# Altium schematic symbol library Converter_DCDC.SchLib: 544 symbols (part 2 of 6)
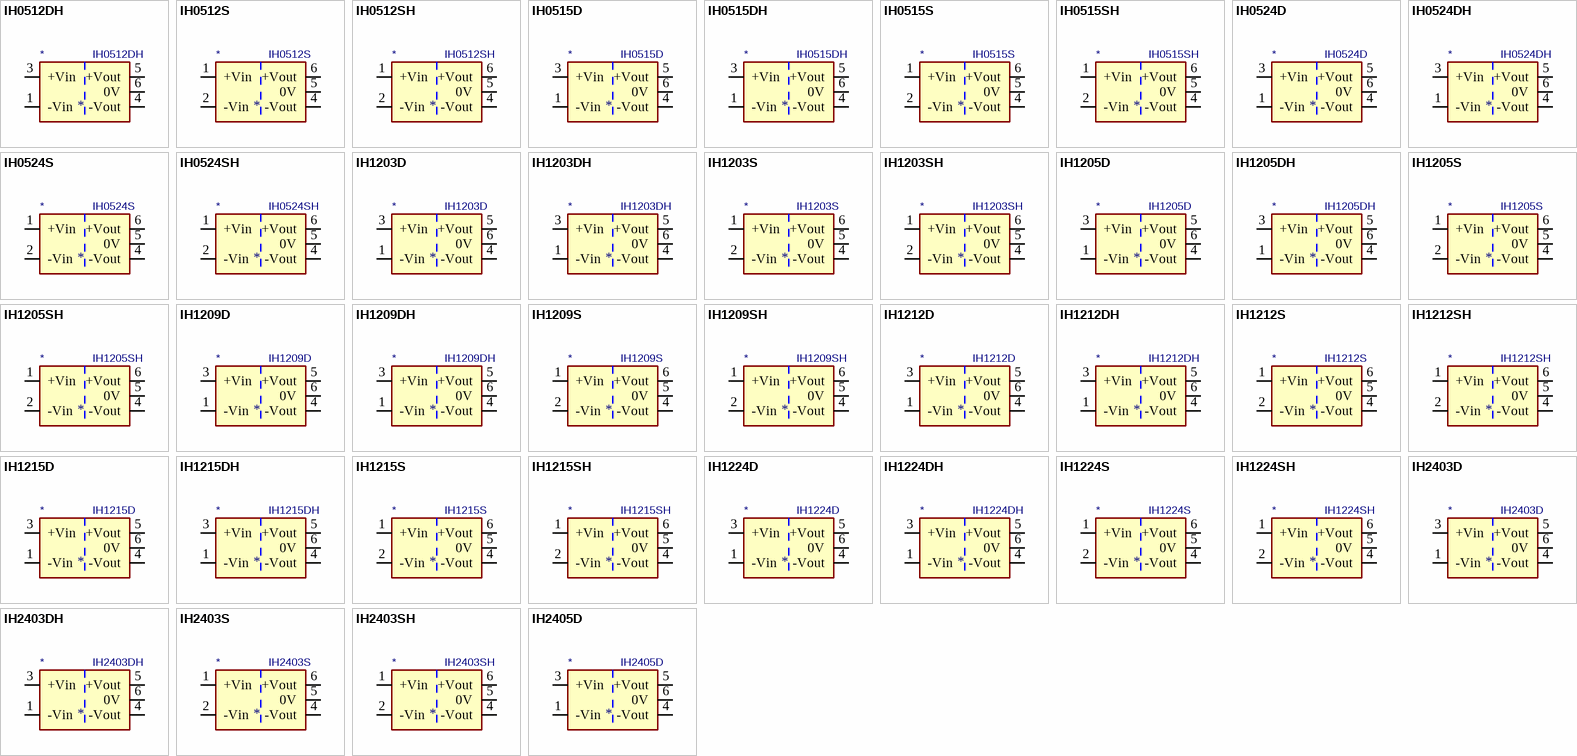
[diagram p14: symbols IH0512DH to IH2405D]

## IH1205DH
designator *  value IH1205DH
ki_keywords: XP_POWER DC/DC isolated Converter module; ki_description: XP Power 2W, 3000-6000 VDC Isolated DC/DC Converter Module, Dual Output Voltage ±5V, ±200mA, 12V Input Voltage, DIP; ki_fp_filters: *XP?POWER?IHxxxxDH*; Footprint: Converter_DCDC:Converter_DCDC_XP_POWER-IHxxxxDH_THT; Supplier: https://www.xppower.com/pdfs/SF_IH.pdf
footprint Converter_DCDC_XP_POWER-IHxxxxDH_THT
pins: 1 -Vin (power), 2 NC (in) hidden, 3 +Vin (power), 4 -Vout (power), 5 +Vout (power), 6 0V (power)

## IH1205S
designator *  value IH1205S
ki_keywords: XP_POWER DC/DC isolated Converter module; ki_description: XP Power 2W, 1000 VDC Isolated DC/DC Converter Module, Dual Output Voltage ±5V, ±200mA, 12V Input Voltage, SIP; ki_fp_filters: *XP?POWER?IHxxxxS*; Footprint: Converter_DCDC:Converter_DCDC_XP_POWER-IHxxxxS_THT; Supplier: https://www.xppower.com/pdfs/SF_IH.pdf
footprint Converter_DCDC_XP_POWER-IHxxxxS_THT
pins: 1 +Vin (power), 2 -Vin (power), 4 -Vout (power), 5 0V (power), 6 +Vout (power)

## IH1205SH
designator *  value IH1205SH
ki_keywords: XP_POWER DC/DC isolated Converter module; ki_description: XP Power 2W, 3000-6000 VDC Isolated DC/DC Converter Module, Dual Output Voltage ±5V, ±200mA, 12V Input Voltage, SIP; ki_fp_filters: *XP?POWER?IHxxxxSH*; Footprint: Converter_DCDC:Converter_DCDC_XP_POWER-IHxxxxSH_THT; Supplier: https://www.xppower.com/pdfs/SF_IH.pdf
footprint Converter_DCDC_XP_POWER-IHxxxxSH_THT
pins: 1 +Vin (power), 2 -Vin (power), 4 -Vout (power), 5 0V (power), 6 +Vout (power)

## IH1209D
designator *  value IH1209D
ki_keywords: XP_POWER DC/DC isolated Converter module; ki_description: XP Power 2W, 1000 VDC Isolated DC/DC Converter Module, Dual Output Voltage ±9V, ±111mA, 12V Input Voltage, DIP; ki_fp_filters: *XP?POWER?IHxxxxD*; Footprint: Converter_DCDC:Converter_DCDC_XP_POWER-IHxxxxD_THT; Supplier: https://www.xppower.com/pdfs/SF_IH.pdf
footprint Converter_DCDC_XP_POWER-IHxxxxD_THT
pins: 1 -Vin (power), 2 NC (in) hidden, 3 +Vin (power), 4 -Vout (power), 5 +Vout (power), 6 0V (power)

## IH1209DH
designator *  value IH1209DH
ki_keywords: XP_POWER DC/DC isolated Converter module; ki_description: XP Power 2W, 3000-6000 VDC Isolated DC/DC Converter Module, Dual Output Voltage ±9V, ±111mA, 12V Input Voltage, DIP; ki_fp_filters: *XP?POWER?IHxxxxDH*; Footprint: Converter_DCDC:Converter_DCDC_XP_POWER-IHxxxxDH_THT; Supplier: https://www.xppower.com/pdfs/SF_IH.pdf
footprint Converter_DCDC_XP_POWER-IHxxxxDH_THT
pins: 1 -Vin (power), 2 NC (in) hidden, 3 +Vin (power), 4 -Vout (power), 5 +Vout (power), 6 0V (power)

## IH1209S
designator *  value IH1209S
ki_keywords: XP_POWER DC/DC isolated Converter module; ki_description: XP Power 2W, 1000 VDC Isolated DC/DC Converter Module, Dual Output Voltage ±9V, ±111mA, 12V Input Voltage, SIP; ki_fp_filters: *XP?POWER?IHxxxxS*; Footprint: Converter_DCDC:Converter_DCDC_XP_POWER-IHxxxxS_THT; Supplier: https://www.xppower.com/pdfs/SF_IH.pdf
footprint Converter_DCDC_XP_POWER-IHxxxxS_THT
pins: 1 +Vin (power), 2 -Vin (power), 4 -Vout (power), 5 0V (power), 6 +Vout (power)

## IH1209SH
designator *  value IH1209SH
ki_keywords: XP_POWER DC/DC isolated Converter module; ki_description: XP Power 2W, 3000-6000 VDC Isolated DC/DC Converter Module, Dual Output Voltage ±9V, ±111mA, 12V Input Voltage, SIP; ki_fp_filters: *XP?POWER?IHxxxxSH*; Footprint: Converter_DCDC:Converter_DCDC_XP_POWER-IHxxxxSH_THT; Supplier: https://www.xppower.com/pdfs/SF_IH.pdf
footprint Converter_DCDC_XP_POWER-IHxxxxSH_THT
pins: 1 +Vin (power), 2 -Vin (power), 4 -Vout (power), 5 0V (power), 6 +Vout (power)

## IH1212D
designator *  value IH1212D
ki_keywords: XP_POWER DC/DC isolated Converter module; ki_description: XP Power 2W, 1000 VDC Isolated DC/DC Converter Module, Dual Output Voltage ±12V, ±84mA, 12V Input Voltage, DIP; ki_fp_filters: *XP?POWER?IHxxxxD*; Footprint: Converter_DCDC:Converter_DCDC_XP_POWER-IHxxxxD_THT; Supplier: https://www.xppower.com/pdfs/SF_IH.pdf
footprint Converter_DCDC_XP_POWER-IHxxxxD_THT
pins: 1 -Vin (power), 2 NC (in) hidden, 3 +Vin (power), 4 -Vout (power), 5 +Vout (power), 6 0V (power)

## IH1212DH
designator *  value IH1212DH
ki_keywords: XP_POWER DC/DC isolated Converter module; ki_description: XP Power 2W, 3000-6000 VDC Isolated DC/DC Converter Module, Dual Output Voltage ±12V, ±84mA, 12V Input Voltage, DIP; ki_fp_filters: *XP?POWER?IHxxxxDH*; Footprint: Converter_DCDC:Converter_DCDC_XP_POWER-IHxxxxDH_THT; Supplier: https://www.xppower.com/pdfs/SF_IH.pdf
footprint Converter_DCDC_XP_POWER-IHxxxxDH_THT
pins: 1 -Vin (power), 2 NC (in) hidden, 3 +Vin (power), 4 -Vout (power), 5 +Vout (power), 6 0V (power)

## IH1212S
designator *  value IH1212S
ki_keywords: XP_POWER DC/DC isolated Converter module; ki_description: XP Power 2W, 1000 VDC Isolated DC/DC Converter Module, Dual Output Voltage ±12V, ±84mA, 12V Input Voltage, SIP; ki_fp_filters: *XP?POWER?IHxxxxS*; Footprint: Converter_DCDC:Converter_DCDC_XP_POWER-IHxxxxS_THT; Supplier: https://www.xppower.com/pdfs/SF_IH.pdf
footprint Converter_DCDC_XP_POWER-IHxxxxS_THT
pins: 1 +Vin (power), 2 -Vin (power), 4 -Vout (power), 5 0V (power), 6 +Vout (power)

## IH1212SH
designator *  value IH1212SH
ki_keywords: XP_POWER DC/DC isolated Converter module; ki_description: XP Power 2W, 3000-6000 VDC Isolated DC/DC Converter Module, Dual Output Voltage ±12V, ±84mA, 12V Input Voltage, SIP; ki_fp_filters: *XP?POWER?IHxxxxSH*; Footprint: Converter_DCDC:Converter_DCDC_XP_POWER-IHxxxxSH_THT; Supplier: https://www.xppower.com/pdfs/SF_IH.pdf
footprint Converter_DCDC_XP_POWER-IHxxxxSH_THT
pins: 1 +Vin (power), 2 -Vin (power), 4 -Vout (power), 5 0V (power), 6 +Vout (power)

## IH1215D
designator *  value IH1215D
ki_keywords: XP_POWER DC/DC isolated Converter module; ki_description: XP Power 2W, 1000 VDC Isolated DC/DC Converter Module, Dual Output Voltage ±15V, ±66mA, 12V Input Voltage, DIP; ki_fp_filters: *XP?POWER?IHxxxxD*; Footprint: Converter_DCDC:Converter_DCDC_XP_POWER-IHxxxxD_THT; Supplier: https://www.xppower.com/pdfs/SF_IH.pdf
footprint Converter_DCDC_XP_POWER-IHxxxxD_THT
pins: 1 -Vin (power), 2 NC (in) hidden, 3 +Vin (power), 4 -Vout (power), 5 +Vout (power), 6 0V (power)

## IH1215DH
designator *  value IH1215DH
ki_keywords: XP_POWER DC/DC isolated Converter module; ki_description: XP Power 2W, 3000-6000 VDC Isolated DC/DC Converter Module, Dual Output Voltage ±15V, ±66mA, 12V Input Voltage, DIP; ki_fp_filters: *XP?POWER?IHxxxxDH*; Footprint: Converter_DCDC:Converter_DCDC_XP_POWER-IHxxxxDH_THT; Supplier: https://www.xppower.com/pdfs/SF_IH.pdf
footprint Converter_DCDC_XP_POWER-IHxxxxDH_THT
pins: 1 -Vin (power), 2 NC (in) hidden, 3 +Vin (power), 4 -Vout (power), 5 +Vout (power), 6 0V (power)

## IH1215S
designator *  value IH1215S
ki_keywords: XP_POWER DC/DC isolated Converter module; ki_description: XP Power 2W, 1000 VDC Isolated DC/DC Converter Module, Dual Output Voltage ±15V, ±66mA, 12V Input Voltage, SIP; ki_fp_filters: *XP?POWER?IHxxxxS*; Footprint: Converter_DCDC:Converter_DCDC_XP_POWER-IHxxxxS_THT; Supplier: https://www.xppower.com/pdfs/SF_IH.pdf
footprint Converter_DCDC_XP_POWER-IHxxxxS_THT
pins: 1 +Vin (power), 2 -Vin (power), 4 -Vout (power), 5 0V (power), 6 +Vout (power)

## IH1215SH
designator *  value IH1215SH
ki_keywords: XP_POWER DC/DC isolated Converter module; ki_description: XP Power 2W, 3000-6000 VDC Isolated DC/DC Converter Module, Dual Output Voltage ±15V, ±66mA, 12V Input Voltage, SIP; ki_fp_filters: *XP?POWER?IHxxxxSH*; Footprint: Converter_DCDC:Converter_DCDC_XP_POWER-IHxxxxSH_THT; Supplier: https://www.xppower.com/pdfs/SF_IH.pdf
footprint Converter_DCDC_XP_POWER-IHxxxxSH_THT
pins: 1 +Vin (power), 2 -Vin (power), 4 -Vout (power), 5 0V (power), 6 +Vout (power)

## IH1224D
designator *  value IH1224D
ki_keywords: XP_POWER DC/DC isolated Converter module; ki_description: XP Power 2W, 1000 VDC Isolated DC/DC Converter Module, Dual Output Voltage ±24V, ±42mA, 12V Input Voltage, DIP; ki_fp_filters: *XP?POWER?IHxxxxD*; Footprint: Converter_DCDC:Converter_DCDC_XP_POWER-IHxxxxD_THT; Supplier: https://www.xppower.com/pdfs/SF_IH.pdf
footprint Converter_DCDC_XP_POWER-IHxxxxD_THT
pins: 1 -Vin (power), 2 NC (in) hidden, 3 +Vin (power), 4 -Vout (power), 5 +Vout (power), 6 0V (power)

## IH1224DH
designator *  value IH1224DH
ki_keywords: XP_POWER DC/DC isolated Converter module; ki_description: XP Power 2W, 3000-6000 VDC Isolated DC/DC Converter Module, Dual Output Voltage ±24V, ±42mA, 12V Input Voltage, DIP; ki_fp_filters: *XP?POWER?IHxxxxDH*; Footprint: Converter_DCDC:Converter_DCDC_XP_POWER-IHxxxxDH_THT; Supplier: https://www.xppower.com/pdfs/SF_IH.pdf
footprint Converter_DCDC_XP_POWER-IHxxxxDH_THT
pins: 1 -Vin (power), 2 NC (in) hidden, 3 +Vin (power), 4 -Vout (power), 5 +Vout (power), 6 0V (power)

## IH1224S
designator *  value IH1224S
ki_keywords: XP_POWER DC/DC isolated Converter module; ki_description: XP Power 2W, 1000 VDC Isolated DC/DC Converter Module, Dual Output Voltage ±24V, ±42mA, 12V Input Voltage, SIP; ki_fp_filters: *XP?POWER?IHxxxxS*; Footprint: Converter_DCDC:Converter_DCDC_XP_POWER-IHxxxxS_THT; Supplier: https://www.xppower.com/pdfs/SF_IH.pdf
footprint Converter_DCDC_XP_POWER-IHxxxxS_THT
pins: 1 +Vin (power), 2 -Vin (power), 4 -Vout (power), 5 0V (power), 6 +Vout (power)

## IH1224SH
designator *  value IH1224SH
ki_keywords: XP_POWER DC/DC isolated Converter module; ki_description: XP Power 2W, 3000-6000 VDC Isolated DC/DC Converter Module, Dual Output Voltage ±24V, ±42mA, 12V Input Voltage, SIP; ki_fp_filters: *XP?POWER?IHxxxxSH*; Footprint: Converter_DCDC:Converter_DCDC_XP_POWER-IHxxxxSH_THT; Supplier: https://www.xppower.com/pdfs/SF_IH.pdf
footprint Converter_DCDC_XP_POWER-IHxxxxSH_THT
pins: 1 +Vin (power), 2 -Vin (power), 4 -Vout (power), 5 0V (power), 6 +Vout (power)

## IH2403D
designator *  value IH2403D
ki_keywords: XP_POWER DC/DC isolated Converter module; ki_description: XP Power 2W, 1000 VDC Isolated DC/DC Converter Module, Dual Output Voltage ±3.3V, ±200mA, 24V Input Voltage, DIP; ki_fp_filters: *XP?POWER?IHxxxxD*; Footprint: Converter_DCDC:Converter_DCDC_XP_POWER-IHxxxxD_THT; Supplier: https://www.xppower.com/pdfs/SF_IH.pdf
footprint Converter_DCDC_XP_POWER-IHxxxxD_THT
pins: 1 -Vin (power), 2 NC (in) hidden, 3 +Vin (power), 4 -Vout (power), 5 +Vout (power), 6 0V (power)

## IH2403DH
designator *  value IH2403DH
ki_keywords: XP_POWER DC/DC isolated Converter module; ki_description: XP Power 2W, 3000-6000 VDC Isolated DC/DC Converter Module, Dual Output Voltage ±3.3V, ±200mA, 24V Input Voltage, DIP; ki_fp_filters: *XP?POWER?IHxxxxDH*; Footprint: Converter_DCDC:Converter_DCDC_XP_POWER-IHxxxxDH_THT; Supplier: https://www.xppower.com/pdfs/SF_IH.pdf
footprint Converter_DCDC_XP_POWER-IHxxxxDH_THT
pins: 1 -Vin (power), 2 NC (in) hidden, 3 +Vin (power), 4 -Vout (power), 5 +Vout (power), 6 0V (power)

## IH2403S
designator *  value IH2403S
ki_keywords: XP_POWER DC/DC isolated Converter module; ki_description: XP Power 2W, 1000 VDC Isolated DC/DC Converter Module, Dual Output Voltage ±3.3V, ±200mA, 24V Input Voltage, SIP; ki_fp_filters: *XP?POWER?IHxxxxS*; Footprint: Converter_DCDC:Converter_DCDC_XP_POWER-IHxxxxS_THT; Supplier: https://www.xppower.com/pdfs/SF_IH.pdf
footprint Converter_DCDC_XP_POWER-IHxxxxS_THT
pins: 1 +Vin (power), 2 -Vin (power), 4 -Vout (power), 5 0V (power), 6 +Vout (power)

## IH2403SH
designator *  value IH2403SH
ki_keywords: XP_POWER DC/DC isolated Converter module; ki_description: XP Power 2W, 3000-6000 VDC Isolated DC/DC Converter Module, Dual Output Voltage ±3.3V, ±200mA, 24V Input Voltage, SIP; ki_fp_filters: *XP?POWER?IHxxxxSH*; Footprint: Converter_DCDC:Converter_DCDC_XP_POWER-IHxxxxSH_THT; Supplier: https://www.xppower.com/pdfs/SF_IH.pdf
footprint Converter_DCDC_XP_POWER-IHxxxxSH_THT
pins: 1 +Vin (power), 2 -Vin (power), 4 -Vout (power), 5 0V (power), 6 +Vout (power)

## IH2405D
designator *  value IH2405D
ki_keywords: XP_POWER DC/DC isolated Converter module; ki_description: XP Power 2W, 1000 VDC Isolated DC/DC Converter Module, Dual Output Voltage ±5V, ±200mA, 24V Input Voltage, DIP; ki_fp_filters: *XP?POWER?IHxxxxD*; Footprint: Converter_DCDC:Converter_DCDC_XP_POWER-IHxxxxD_THT; Supplier: https://www.xppower.com/pdfs/SF_IH.pdf
footprint Converter_DCDC_XP_POWER-IHxxxxD_THT
pins: 1 -Vin (power), 2 NC (in) hidden, 3 +Vin (power), 4 -Vout (power), 5 +Vout (power), 6 0V (power)

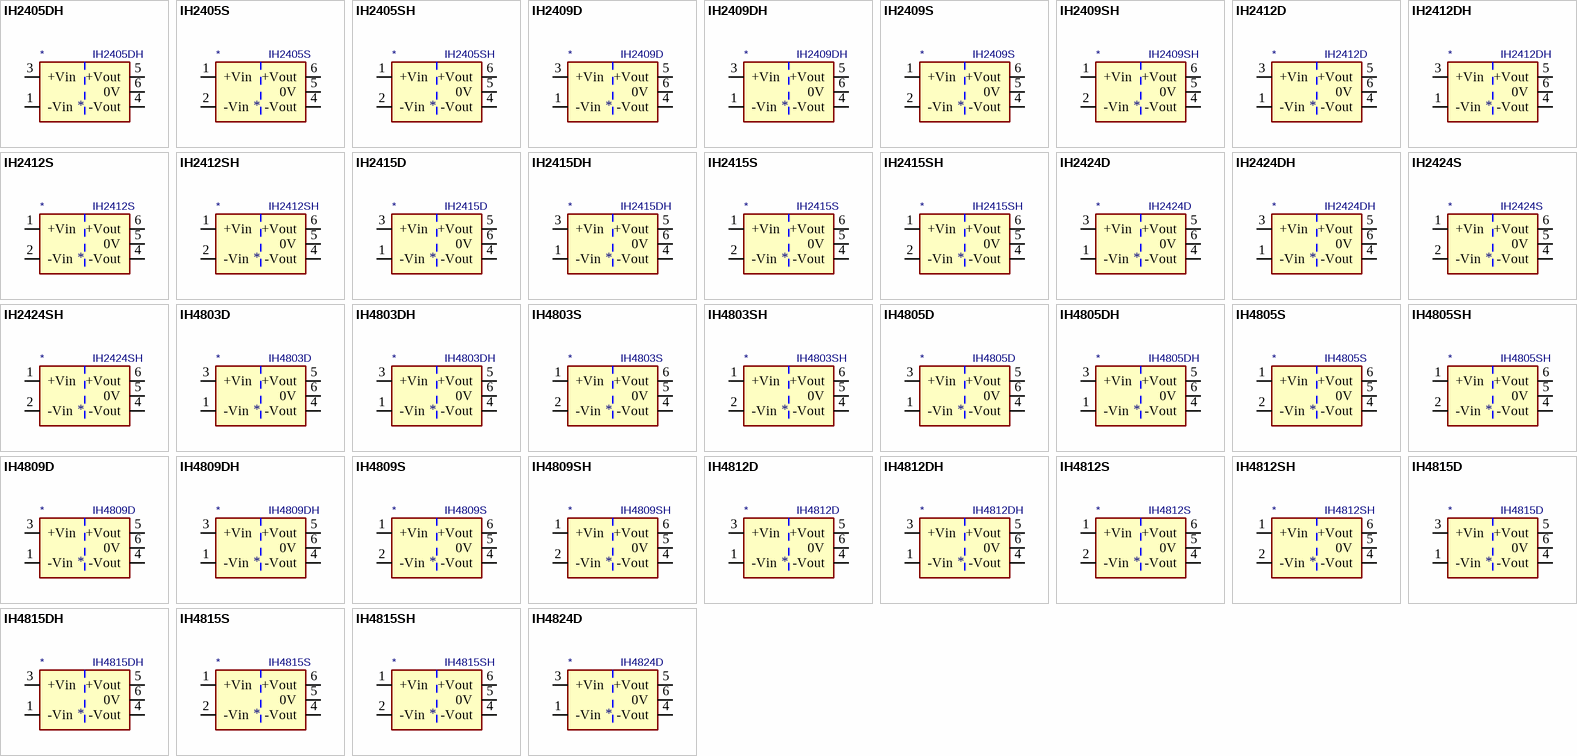
[diagram p3: symbols IH2405DH to IH4824D]

## IH2405DH
designator *  value IH2405DH
ki_keywords: XP_POWER DC/DC isolated Converter module; ki_description: XP Power 2W, 3000-6000 VDC Isolated DC/DC Converter Module, Dual Output Voltage ±5V, ±200mA, 24V Input Voltage, DIP; ki_fp_filters: *XP?POWER?IHxxxxDH*; Footprint: Converter_DCDC:Converter_DCDC_XP_POWER-IHxxxxDH_THT; Supplier: https://www.xppower.com/pdfs/SF_IH.pdf
footprint Converter_DCDC_XP_POWER-IHxxxxDH_THT
pins: 1 -Vin (power), 2 NC (in) hidden, 3 +Vin (power), 4 -Vout (power), 5 +Vout (power), 6 0V (power)

## IH2405S
designator *  value IH2405S
ki_keywords: XP_POWER DC/DC isolated Converter module; ki_description: XP Power 2W, 1000 VDC Isolated DC/DC Converter Module, Dual Output Voltage ±5V, ±200mA, 24V Input Voltage, SIP; ki_fp_filters: *XP?POWER?IHxxxxS*; Footprint: Converter_DCDC:Converter_DCDC_XP_POWER-IHxxxxS_THT; Supplier: https://www.xppower.com/pdfs/SF_IH.pdf
footprint Converter_DCDC_XP_POWER-IHxxxxS_THT
pins: 1 +Vin (power), 2 -Vin (power), 4 -Vout (power), 5 0V (power), 6 +Vout (power)

## IH2405SH
designator *  value IH2405SH
ki_keywords: XP_POWER DC/DC isolated Converter module; ki_description: XP Power 2W, 3000-6000 VDC Isolated DC/DC Converter Module, Dual Output Voltage ±5V, ±200mA, 24V Input Voltage, SIP; ki_fp_filters: *XP?POWER?IHxxxxSH*; Footprint: Converter_DCDC:Converter_DCDC_XP_POWER-IHxxxxSH_THT; Supplier: https://www.xppower.com/pdfs/SF_IH.pdf
footprint Converter_DCDC_XP_POWER-IHxxxxSH_THT
pins: 1 +Vin (power), 2 -Vin (power), 4 -Vout (power), 5 0V (power), 6 +Vout (power)

## IH2409D
designator *  value IH2409D
ki_keywords: XP_POWER DC/DC isolated Converter module; ki_description: XP Power 2W, 1000 VDC Isolated DC/DC Converter Module, Dual Output Voltage ±9V, ±111mA, 24V Input Voltage, DIP; ki_fp_filters: *XP?POWER?IHxxxxD*; Footprint: Converter_DCDC:Converter_DCDC_XP_POWER-IHxxxxD_THT; Supplier: https://www.xppower.com/pdfs/SF_IH.pdf
footprint Converter_DCDC_XP_POWER-IHxxxxD_THT
pins: 1 -Vin (power), 2 NC (in) hidden, 3 +Vin (power), 4 -Vout (power), 5 +Vout (power), 6 0V (power)

## IH2409DH
designator *  value IH2409DH
ki_keywords: XP_POWER DC/DC isolated Converter module; ki_description: XP Power 2W, 3000-6000 VDC Isolated DC/DC Converter Module, Dual Output Voltage ±9V, ±111mA, 24V Input Voltage, DIP; ki_fp_filters: *XP?POWER?IHxxxxDH*; Footprint: Converter_DCDC:Converter_DCDC_XP_POWER-IHxxxxDH_THT; Supplier: https://www.xppower.com/pdfs/SF_IH.pdf
footprint Converter_DCDC_XP_POWER-IHxxxxDH_THT
pins: 1 -Vin (power), 2 NC (in) hidden, 3 +Vin (power), 4 -Vout (power), 5 +Vout (power), 6 0V (power)

## IH2409S
designator *  value IH2409S
ki_keywords: XP_POWER DC/DC isolated Converter module; ki_description: XP Power 2W, 1000 VDC Isolated DC/DC Converter Module, Dual Output Voltage ±9V, ±111mA, 24V Input Voltage, SIP; ki_fp_filters: *XP?POWER?IHxxxxS*; Footprint: Converter_DCDC:Converter_DCDC_XP_POWER-IHxxxxS_THT; Supplier: https://www.xppower.com/pdfs/SF_IH.pdf
footprint Converter_DCDC_XP_POWER-IHxxxxS_THT
pins: 1 +Vin (power), 2 -Vin (power), 4 -Vout (power), 5 0V (power), 6 +Vout (power)

## IH2409SH
designator *  value IH2409SH
ki_keywords: XP_POWER DC/DC isolated Converter module; ki_description: XP Power 2W, 3000-6000 VDC Isolated DC/DC Converter Module, Dual Output Voltage ±9V, ±111mA, 24V Input Voltage, SIP; ki_fp_filters: *XP?POWER?IHxxxxSH*; Footprint: Converter_DCDC:Converter_DCDC_XP_POWER-IHxxxxSH_THT; Supplier: https://www.xppower.com/pdfs/SF_IH.pdf
footprint Converter_DCDC_XP_POWER-IHxxxxSH_THT
pins: 1 +Vin (power), 2 -Vin (power), 4 -Vout (power), 5 0V (power), 6 +Vout (power)

## IH2412D
designator *  value IH2412D
ki_keywords: XP_POWER DC/DC isolated Converter module; ki_description: XP Power 2W, 1000 VDC Isolated DC/DC Converter Module, Dual Output Voltage ±12V, ±84mA, 24V Input Voltage, DIP; ki_fp_filters: *XP?POWER?IHxxxxD*; Footprint: Converter_DCDC:Converter_DCDC_XP_POWER-IHxxxxD_THT; Supplier: https://www.xppower.com/pdfs/SF_IH.pdf
footprint Converter_DCDC_XP_POWER-IHxxxxD_THT
pins: 1 -Vin (power), 2 NC (in) hidden, 3 +Vin (power), 4 -Vout (power), 5 +Vout (power), 6 0V (power)

## IH2412DH
designator *  value IH2412DH
ki_keywords: XP_POWER DC/DC isolated Converter module; ki_description: XP Power 2W, 3000-6000 VDC Isolated DC/DC Converter Module, Dual Output Voltage ±12V, ±84mA, 24V Input Voltage, DIP; ki_fp_filters: *XP?POWER?IHxxxxDH*; Footprint: Converter_DCDC:Converter_DCDC_XP_POWER-IHxxxxDH_THT; Supplier: https://www.xppower.com/pdfs/SF_IH.pdf
footprint Converter_DCDC_XP_POWER-IHxxxxDH_THT
pins: 1 -Vin (power), 2 NC (in) hidden, 3 +Vin (power), 4 -Vout (power), 5 +Vout (power), 6 0V (power)

## IH2412S
designator *  value IH2412S
ki_keywords: XP_POWER DC/DC isolated Converter module; ki_description: XP Power 2W, 1000 VDC Isolated DC/DC Converter Module, Dual Output Voltage ±12V, ±84mA, 24V Input Voltage, SIP; ki_fp_filters: *XP?POWER?IHxxxxS*; Footprint: Converter_DCDC:Converter_DCDC_XP_POWER-IHxxxxS_THT; Supplier: https://www.xppower.com/pdfs/SF_IH.pdf
footprint Converter_DCDC_XP_POWER-IHxxxxS_THT
pins: 1 +Vin (power), 2 -Vin (power), 4 -Vout (power), 5 0V (power), 6 +Vout (power)

## IH2412SH
designator *  value IH2412SH
ki_keywords: XP_POWER DC/DC isolated Converter module; ki_description: XP Power 2W, 3000-6000 VDC Isolated DC/DC Converter Module, Dual Output Voltage ±12V, ±84mA, 24V Input Voltage, SIP; ki_fp_filters: *XP?POWER?IHxxxxSH*; Footprint: Converter_DCDC:Converter_DCDC_XP_POWER-IHxxxxSH_THT; Supplier: https://www.xppower.com/pdfs/SF_IH.pdf
footprint Converter_DCDC_XP_POWER-IHxxxxSH_THT
pins: 1 +Vin (power), 2 -Vin (power), 4 -Vout (power), 5 0V (power), 6 +Vout (power)

## IH2415D
designator *  value IH2415D
ki_keywords: XP_POWER DC/DC isolated Converter module; ki_description: XP Power 2W, 1000 VDC Isolated DC/DC Converter Module, Dual Output Voltage ±15V, ±66mA, 24V Input Voltage, DIP; ki_fp_filters: *XP?POWER?IHxxxxD*; Footprint: Converter_DCDC:Converter_DCDC_XP_POWER-IHxxxxD_THT; Supplier: https://www.xppower.com/pdfs/SF_IH.pdf
footprint Converter_DCDC_XP_POWER-IHxxxxD_THT
pins: 1 -Vin (power), 2 NC (in) hidden, 3 +Vin (power), 4 -Vout (power), 5 +Vout (power), 6 0V (power)

## IH2415DH
designator *  value IH2415DH
ki_keywords: XP_POWER DC/DC isolated Converter module; ki_description: XP Power 2W, 3000-6000 VDC Isolated DC/DC Converter Module, Dual Output Voltage ±15V, ±66mA, 24V Input Voltage, DIP; ki_fp_filters: *XP?POWER?IHxxxxDH*; Footprint: Converter_DCDC:Converter_DCDC_XP_POWER-IHxxxxDH_THT; Supplier: https://www.xppower.com/pdfs/SF_IH.pdf
footprint Converter_DCDC_XP_POWER-IHxxxxDH_THT
pins: 1 -Vin (power), 2 NC (in) hidden, 3 +Vin (power), 4 -Vout (power), 5 +Vout (power), 6 0V (power)

## IH2415S
designator *  value IH2415S
ki_keywords: XP_POWER DC/DC isolated Converter module; ki_description: XP Power 2W, 1000 VDC Isolated DC/DC Converter Module, Dual Output Voltage ±15V, ±66mA, 24V Input Voltage, SIP; ki_fp_filters: *XP?POWER?IHxxxxS*; Footprint: Converter_DCDC:Converter_DCDC_XP_POWER-IHxxxxS_THT; Supplier: https://www.xppower.com/pdfs/SF_IH.pdf
footprint Converter_DCDC_XP_POWER-IHxxxxS_THT
pins: 1 +Vin (power), 2 -Vin (power), 4 -Vout (power), 5 0V (power), 6 +Vout (power)

## IH2415SH
designator *  value IH2415SH
ki_keywords: XP_POWER DC/DC isolated Converter module; ki_description: XP Power 2W, 3000-6000 VDC Isolated DC/DC Converter Module, Dual Output Voltage ±15V, ±66mA, 24V Input Voltage, SIP; ki_fp_filters: *XP?POWER?IHxxxxSH*; Footprint: Converter_DCDC:Converter_DCDC_XP_POWER-IHxxxxSH_THT; Supplier: https://www.xppower.com/pdfs/SF_IH.pdf
footprint Converter_DCDC_XP_POWER-IHxxxxSH_THT
pins: 1 +Vin (power), 2 -Vin (power), 4 -Vout (power), 5 0V (power), 6 +Vout (power)

## IH2424D
designator *  value IH2424D
ki_keywords: XP_POWER DC/DC isolated Converter module; ki_description: XP Power 2W, 1000 VDC Isolated DC/DC Converter Module, Dual Output Voltage ±24V, ±42mA, 24V Input Voltage, DIP; ki_fp_filters: *XP?POWER?IHxxxxD*; Footprint: Converter_DCDC:Converter_DCDC_XP_POWER-IHxxxxD_THT; Supplier: https://www.xppower.com/pdfs/SF_IH.pdf
footprint Converter_DCDC_XP_POWER-IHxxxxD_THT
pins: 1 -Vin (power), 2 NC (in) hidden, 3 +Vin (power), 4 -Vout (power), 5 +Vout (power), 6 0V (power)

## IH2424DH
designator *  value IH2424DH
ki_keywords: XP_POWER DC/DC isolated Converter module; ki_description: XP Power 2W, 3000-6000 VDC Isolated DC/DC Converter Module, Dual Output Voltage ±24V, ±42mA, 24V Input Voltage, DIP; ki_fp_filters: *XP?POWER?IHxxxxDH*; Footprint: Converter_DCDC:Converter_DCDC_XP_POWER-IHxxxxDH_THT; Supplier: https://www.xppower.com/pdfs/SF_IH.pdf
footprint Converter_DCDC_XP_POWER-IHxxxxDH_THT
pins: 1 -Vin (power), 2 NC (in) hidden, 3 +Vin (power), 4 -Vout (power), 5 +Vout (power), 6 0V (power)

## IH2424S
designator *  value IH2424S
ki_keywords: XP_POWER DC/DC isolated Converter module; ki_description: XP Power 2W, 1000 VDC Isolated DC/DC Converter Module, Dual Output Voltage ±24V, ±42mA, 24V Input Voltage, SIP; ki_fp_filters: *XP?POWER?IHxxxxS*; Footprint: Converter_DCDC:Converter_DCDC_XP_POWER-IHxxxxS_THT; Supplier: https://www.xppower.com/pdfs/SF_IH.pdf
footprint Converter_DCDC_XP_POWER-IHxxxxS_THT
pins: 1 +Vin (power), 2 -Vin (power), 4 -Vout (power), 5 0V (power), 6 +Vout (power)

## IH2424SH
designator *  value IH2424SH
ki_keywords: XP_POWER DC/DC isolated Converter module; ki_description: XP Power 2W, 3000-6000 VDC Isolated DC/DC Converter Module, Dual Output Voltage ±24V, ±42mA, 24V Input Voltage, SIP; ki_fp_filters: *XP?POWER?IHxxxxSH*; Footprint: Converter_DCDC:Converter_DCDC_XP_POWER-IHxxxxSH_THT; Supplier: https://www.xppower.com/pdfs/SF_IH.pdf
footprint Converter_DCDC_XP_POWER-IHxxxxSH_THT
pins: 1 +Vin (power), 2 -Vin (power), 4 -Vout (power), 5 0V (power), 6 +Vout (power)

## IH4803D
designator *  value IH4803D
ki_keywords: XP_POWER DC/DC isolated Converter module; ki_description: XP Power 2W, 1000 VDC Isolated DC/DC Converter Module, Dual Output Voltage ±3.3V, ±200mA, 48V Input Voltage, DIP; ki_fp_filters: *XP?POWER?IHxxxxD*; Footprint: Converter_DCDC:Converter_DCDC_XP_POWER-IHxxxxD_THT; Supplier: https://www.xppower.com/pdfs/SF_IH.pdf
footprint Converter_DCDC_XP_POWER-IHxxxxD_THT
pins: 1 -Vin (power), 2 NC (in) hidden, 3 +Vin (power), 4 -Vout (power), 5 +Vout (power), 6 0V (power)

## IH4803DH
designator *  value IH4803DH
ki_keywords: XP_POWER DC/DC isolated Converter module; ki_description: XP Power 2W, 3000-6000 VDC Isolated DC/DC Converter Module, Dual Output Voltage ±3.3V, ±200mA, 48V Input Voltage, DIP; ki_fp_filters: *XP?POWER?IHxxxxDH*; Footprint: Converter_DCDC:Converter_DCDC_XP_POWER-IHxxxxDH_THT; Supplier: https://www.xppower.com/pdfs/SF_IH.pdf
footprint Converter_DCDC_XP_POWER-IHxxxxDH_THT
pins: 1 -Vin (power), 2 NC (in) hidden, 3 +Vin (power), 4 -Vout (power), 5 +Vout (power), 6 0V (power)

## IH4803S
designator *  value IH4803S
ki_keywords: XP_POWER DC/DC isolated Converter module; ki_description: XP Power 2W, 1000 VDC Isolated DC/DC Converter Module, Dual Output Voltage ±3.3V, ±200mA, 48V Input Voltage, SIP; ki_fp_filters: *XP?POWER?IHxxxxS*; Footprint: Converter_DCDC:Converter_DCDC_XP_POWER-IHxxxxS_THT; Supplier: https://www.xppower.com/pdfs/SF_IH.pdf
footprint Converter_DCDC_XP_POWER-IHxxxxS_THT
pins: 1 +Vin (power), 2 -Vin (power), 4 -Vout (power), 5 0V (power), 6 +Vout (power)

## IH4803SH
designator *  value IH4803SH
ki_keywords: XP_POWER DC/DC isolated Converter module; ki_description: XP Power 2W, 3000-6000 VDC Isolated DC/DC Converter Module, Dual Output Voltage ±3.3V, ±200mA, 48V Input Voltage, SIP; ki_fp_filters: *XP?POWER?IHxxxxSH*; Footprint: Converter_DCDC:Converter_DCDC_XP_POWER-IHxxxxSH_THT; Supplier: https://www.xppower.com/pdfs/SF_IH.pdf
footprint Converter_DCDC_XP_POWER-IHxxxxSH_THT
pins: 1 +Vin (power), 2 -Vin (power), 4 -Vout (power), 5 0V (power), 6 +Vout (power)

## IH4805D
designator *  value IH4805D
ki_keywords: XP_POWER DC/DC isolated Converter module; ki_description: XP Power 2W, 1000 VDC Isolated DC/DC Converter Module, Dual Output Voltage ±5V, ±200mA, 48V Input Voltage, DIP; ki_fp_filters: *XP?POWER?IHxxxxD*; Footprint: Converter_DCDC:Converter_DCDC_XP_POWER-IHxxxxD_THT; Supplier: https://www.xppower.com/pdfs/SF_IH.pdf
footprint Converter_DCDC_XP_POWER-IHxxxxD_THT
pins: 1 -Vin (power), 2 NC (in) hidden, 3 +Vin (power), 4 -Vout (power), 5 +Vout (power), 6 0V (power)

## IH4805DH
designator *  value IH4805DH
ki_keywords: XP_POWER DC/DC isolated Converter module; ki_description: XP Power 2W, 3000-6000 VDC Isolated DC/DC Converter Module, Dual Output Voltage ±5V, ±200mA, 48V Input Voltage, DIP; ki_fp_filters: *XP?POWER?IHxxxxDH*; Footprint: Converter_DCDC:Converter_DCDC_XP_POWER-IHxxxxDH_THT; Supplier: https://www.xppower.com/pdfs/SF_IH.pdf
footprint Converter_DCDC_XP_POWER-IHxxxxDH_THT
pins: 1 -Vin (power), 2 NC (in) hidden, 3 +Vin (power), 4 -Vout (power), 5 +Vout (power), 6 0V (power)

## IH4805S
designator *  value IH4805S
ki_keywords: XP_POWER DC/DC isolated Converter module; ki_description: XP Power 2W, 1000 VDC Isolated DC/DC Converter Module, Dual Output Voltage ±5V, ±200mA, 48V Input Voltage, SIP; ki_fp_filters: *XP?POWER?IHxxxxS*; Footprint: Converter_DCDC:Converter_DCDC_XP_POWER-IHxxxxS_THT; Supplier: https://www.xppower.com/pdfs/SF_IH.pdf
footprint Converter_DCDC_XP_POWER-IHxxxxS_THT
pins: 1 +Vin (power), 2 -Vin (power), 4 -Vout (power), 5 0V (power), 6 +Vout (power)

## IH4805SH
designator *  value IH4805SH
ki_keywords: XP_POWER DC/DC isolated Converter module; ki_description: XP Power 2W, 3000-6000 VDC Isolated DC/DC Converter Module, Dual Output Voltage ±5V, ±200mA, 48V Input Voltage, SIP; ki_fp_filters: *XP?POWER?IHxxxxSH*; Footprint: Converter_DCDC:Converter_DCDC_XP_POWER-IHxxxxSH_THT; Supplier: https://www.xppower.com/pdfs/SF_IH.pdf
footprint Converter_DCDC_XP_POWER-IHxxxxSH_THT
pins: 1 +Vin (power), 2 -Vin (power), 4 -Vout (power), 5 0V (power), 6 +Vout (power)

## IH4809D
designator *  value IH4809D
ki_keywords: XP_POWER DC/DC isolated Converter module; ki_description: XP Power 2W, 1000 VDC Isolated DC/DC Converter Module, Dual Output Voltage ±9V, ±111mA, 48V Input Voltage, DIP; ki_fp_filters: *XP?POWER?IHxxxxD*; Footprint: Converter_DCDC:Converter_DCDC_XP_POWER-IHxxxxD_THT; Supplier: https://www.xppower.com/pdfs/SF_IH.pdf
footprint Converter_DCDC_XP_POWER-IHxxxxD_THT
pins: 1 -Vin (power), 2 NC (in) hidden, 3 +Vin (power), 4 -Vout (power), 5 +Vout (power), 6 0V (power)

## IH4809DH
designator *  value IH4809DH
ki_keywords: XP_POWER DC/DC isolated Converter module; ki_description: XP Power 2W, 3000-6000 VDC Isolated DC/DC Converter Module, Dual Output Voltage ±9V, ±111mA, 48V Input Voltage, DIP; ki_fp_filters: *XP?POWER?IHxxxxDH*; Footprint: Converter_DCDC:Converter_DCDC_XP_POWER-IHxxxxDH_THT; Supplier: https://www.xppower.com/pdfs/SF_IH.pdf
footprint Converter_DCDC_XP_POWER-IHxxxxDH_THT
pins: 1 -Vin (power), 2 NC (in) hidden, 3 +Vin (power), 4 -Vout (power), 5 +Vout (power), 6 0V (power)

## IH4809S
designator *  value IH4809S
ki_keywords: XP_POWER DC/DC isolated Converter module; ki_description: XP Power 2W, 1000 VDC Isolated DC/DC Converter Module, Dual Output Voltage ±9V, ±111mA, 48V Input Voltage, SIP; ki_fp_filters: *XP?POWER?IHxxxxS*; Footprint: Converter_DCDC:Converter_DCDC_XP_POWER-IHxxxxS_THT; Supplier: https://www.xppower.com/pdfs/SF_IH.pdf
footprint Converter_DCDC_XP_POWER-IHxxxxS_THT
pins: 1 +Vin (power), 2 -Vin (power), 4 -Vout (power), 5 0V (power), 6 +Vout (power)

## IH4809SH
designator *  value IH4809SH
ki_keywords: XP_POWER DC/DC isolated Converter module; ki_description: XP Power 2W, 3000-6000 VDC Isolated DC/DC Converter Module, Dual Output Voltage ±9V, ±111mA, 48V Input Voltage, SIP; ki_fp_filters: *XP?POWER?IHxxxxSH*; Footprint: Converter_DCDC:Converter_DCDC_XP_POWER-IHxxxxSH_THT; Supplier: https://www.xppower.com/pdfs/SF_IH.pdf
footprint Converter_DCDC_XP_POWER-IHxxxxSH_THT
pins: 1 +Vin (power), 2 -Vin (power), 4 -Vout (power), 5 0V (power), 6 +Vout (power)

## IH4812D
designator *  value IH4812D
ki_keywords: XP_POWER DC/DC isolated Converter module; ki_description: XP Power 2W, 1000 VDC Isolated DC/DC Converter Module, Dual Output Voltage ±12V, ±84mA, 48V Input Voltage, DIP; ki_fp_filters: *XP?POWER?IHxxxxD*; Footprint: Converter_DCDC:Converter_DCDC_XP_POWER-IHxxxxD_THT; Supplier: https://www.xppower.com/pdfs/SF_IH.pdf
footprint Converter_DCDC_XP_POWER-IHxxxxD_THT
pins: 1 -Vin (power), 2 NC (in) hidden, 3 +Vin (power), 4 -Vout (power), 5 +Vout (power), 6 0V (power)

## IH4812DH
designator *  value IH4812DH
ki_keywords: XP_POWER DC/DC isolated Converter module; ki_description: XP Power 2W, 3000-6000 VDC Isolated DC/DC Converter Module, Dual Output Voltage ±12V, ±84mA, 48V Input Voltage, DIP; ki_fp_filters: *XP?POWER?IHxxxxDH*; Footprint: Converter_DCDC:Converter_DCDC_XP_POWER-IHxxxxDH_THT; Supplier: https://www.xppower.com/pdfs/SF_IH.pdf
footprint Converter_DCDC_XP_POWER-IHxxxxDH_THT
pins: 1 -Vin (power), 2 NC (in) hidden, 3 +Vin (power), 4 -Vout (power), 5 +Vout (power), 6 0V (power)

## IH4812S
designator *  value IH4812S
ki_keywords: XP_POWER DC/DC isolated Converter module; ki_description: XP Power 2W, 1000 VDC Isolated DC/DC Converter Module, Dual Output Voltage ±12V, ±84mA, 48V Input Voltage, SIP; ki_fp_filters: *XP?POWER?IHxxxxS*; Footprint: Converter_DCDC:Converter_DCDC_XP_POWER-IHxxxxS_THT; Supplier: https://www.xppower.com/pdfs/SF_IH.pdf
footprint Converter_DCDC_XP_POWER-IHxxxxS_THT
pins: 1 +Vin (power), 2 -Vin (power), 4 -Vout (power), 5 0V (power), 6 +Vout (power)

## IH4812SH
designator *  value IH4812SH
ki_keywords: XP_POWER DC/DC isolated Converter module; ki_description: XP Power 2W, 3000-6000 VDC Isolated DC/DC Converter Module, Dual Output Voltage ±12V, ±84mA, 48V Input Voltage, SIP; ki_fp_filters: *XP?POWER?IHxxxxSH*; Footprint: Converter_DCDC:Converter_DCDC_XP_POWER-IHxxxxSH_THT; Supplier: https://www.xppower.com/pdfs/SF_IH.pdf
footprint Converter_DCDC_XP_POWER-IHxxxxSH_THT
pins: 1 +Vin (power), 2 -Vin (power), 4 -Vout (power), 5 0V (power), 6 +Vout (power)

## IH4815D
designator *  value IH4815D
ki_keywords: XP_POWER DC/DC isolated Converter module; ki_description: XP Power 2W, 1000 VDC Isolated DC/DC Converter Module, Dual Output Voltage ±15V, ±66mA, 48V Input Voltage, DIP; ki_fp_filters: *XP?POWER?IHxxxxD*; Footprint: Converter_DCDC:Converter_DCDC_XP_POWER-IHxxxxD_THT; Supplier: https://www.xppower.com/pdfs/SF_IH.pdf
footprint Converter_DCDC_XP_POWER-IHxxxxD_THT
pins: 1 -Vin (power), 2 NC (in) hidden, 3 +Vin (power), 4 -Vout (power), 5 +Vout (power), 6 0V (power)

## IH4815DH
designator *  value IH4815DH
ki_keywords: XP_POWER DC/DC isolated Converter module; ki_description: XP Power 2W, 3000-6000 VDC Isolated DC/DC Converter Module, Dual Output Voltage ±15V, ±66mA, 48V Input Voltage, DIP; ki_fp_filters: *XP?POWER?IHxxxxDH*; Footprint: Converter_DCDC:Converter_DCDC_XP_POWER-IHxxxxDH_THT; Supplier: https://www.xppower.com/pdfs/SF_IH.pdf
footprint Converter_DCDC_XP_POWER-IHxxxxDH_THT
pins: 1 -Vin (power), 2 NC (in) hidden, 3 +Vin (power), 4 -Vout (power), 5 +Vout (power), 6 0V (power)

## IH4815S
designator *  value IH4815S
ki_keywords: XP_POWER DC/DC isolated Converter module; ki_description: XP Power 2W, 1000 VDC Isolated DC/DC Converter Module, Dual Output Voltage ±15V, ±66mA, 48V Input Voltage, SIP; ki_fp_filters: *XP?POWER?IHxxxxS*; Footprint: Converter_DCDC:Converter_DCDC_XP_POWER-IHxxxxS_THT; Supplier: https://www.xppower.com/pdfs/SF_IH.pdf
footprint Converter_DCDC_XP_POWER-IHxxxxS_THT
pins: 1 +Vin (power), 2 -Vin (power), 4 -Vout (power), 5 0V (power), 6 +Vout (power)

## IH4815SH
designator *  value IH4815SH
ki_keywords: XP_POWER DC/DC isolated Converter module; ki_description: XP Power 2W, 3000-6000 VDC Isolated DC/DC Converter Module, Dual Output Voltage ±15V, ±66mA, 48V Input Voltage, SIP; ki_fp_filters: *XP?POWER?IHxxxxSH*; Footprint: Converter_DCDC:Converter_DCDC_XP_POWER-IHxxxxSH_THT; Supplier: https://www.xppower.com/pdfs/SF_IH.pdf
footprint Converter_DCDC_XP_POWER-IHxxxxSH_THT
pins: 1 +Vin (power), 2 -Vin (power), 4 -Vout (power), 5 0V (power), 6 +Vout (power)

## IH4824D
designator *  value IH4824D
ki_keywords: XP_POWER DC/DC isolated Converter module; ki_description: XP Power 2W, 1000 VDC Isolated DC/DC Converter Module, Dual Output Voltage ±24V, ±42mA, 48V Input Voltage, DIP; ki_fp_filters: *XP?POWER?IHxxxxD*; Footprint: Converter_DCDC:Converter_DCDC_XP_POWER-IHxxxxD_THT; Supplier: https://www.xppower.com/pdfs/SF_IH.pdf
footprint Converter_DCDC_XP_POWER-IHxxxxD_THT
pins: 1 -Vin (power), 2 NC (in) hidden, 3 +Vin (power), 4 -Vout (power), 5 +Vout (power), 6 0V (power)

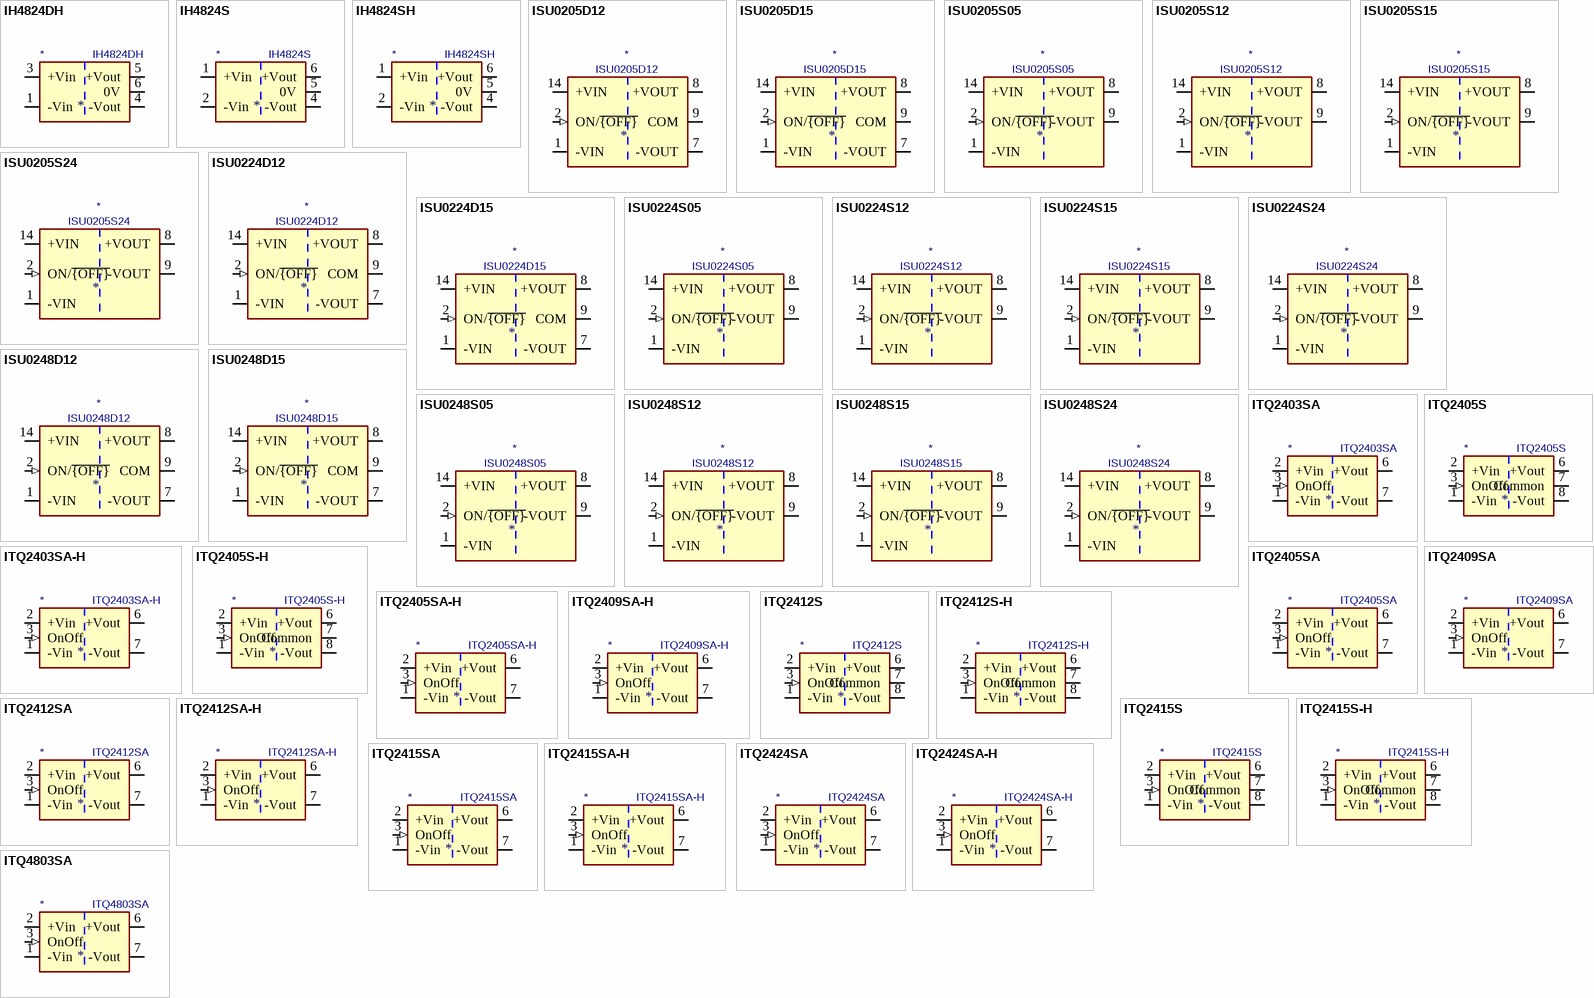
[diagram p4: symbols IH4824DH to ITQ4803SA]

## IH4824DH
designator *  value IH4824DH
ki_keywords: XP_POWER DC/DC isolated Converter module; ki_description: XP Power 2W, 3000-6000 VDC Isolated DC/DC Converter Module, Dual Output Voltage ±24V, ±42mA, 48V Input Voltage, DIP; ki_fp_filters: *XP?POWER?IHxxxxDH*; Footprint: Converter_DCDC:Converter_DCDC_XP_POWER-IHxxxxDH_THT; Supplier: https://www.xppower.com/pdfs/SF_IH.pdf
footprint Converter_DCDC_XP_POWER-IHxxxxDH_THT
pins: 1 -Vin (power), 2 NC (in) hidden, 3 +Vin (power), 4 -Vout (power), 5 +Vout (power), 6 0V (power)

## IH4824S
designator *  value IH4824S
ki_keywords: XP_POWER DC/DC isolated Converter module; ki_description: XP Power 2W, 1000 VDC Isolated DC/DC Converter Module, Dual Output Voltage ±24V, ±42mA, 48V Input Voltage, SIP; ki_fp_filters: *XP?POWER?IHxxxxS*; Footprint: Converter_DCDC:Converter_DCDC_XP_POWER-IHxxxxS_THT; Supplier: https://www.xppower.com/pdfs/SF_IH.pdf
footprint Converter_DCDC_XP_POWER-IHxxxxS_THT
pins: 1 +Vin (power), 2 -Vin (power), 4 -Vout (power), 5 0V (power), 6 +Vout (power)

## IH4824SH
designator *  value IH4824SH
ki_keywords: XP_POWER DC/DC isolated Converter module; ki_description: XP Power 2W, 3000-6000 VDC Isolated DC/DC Converter Module, Dual Output Voltage ±24V, ±42mA, 48V Input Voltage, SIP; ki_fp_filters: *XP?POWER?IHxxxxSH*; Footprint: Converter_DCDC:Converter_DCDC_XP_POWER-IHxxxxSH_THT; Supplier: https://www.xppower.com/pdfs/SF_IH.pdf
footprint Converter_DCDC_XP_POWER-IHxxxxSH_THT
pins: 1 +Vin (power), 2 -Vin (power), 4 -Vout (power), 5 0V (power), 6 +Vout (power)

## ISU0205D12
designator *  value ISU0205D12
ki_keywords: DC/DC Converter dual; ki_description: XP Power 2W Isolated DC/DC Dual Supply Converter Module, ±12V Output Voltage, 4.5-12V Input Voltage; ki_fp_filters: *XP?POWER*ISU02*SMD*; Footprint: Converter_DCDC:Converter_DCDC_XP_POWER-ISU02_SMD; Supplier: https://www.xppower.com/Portals/0/pdfs/SF_ISU02.pdf
footprint Converter_DCDC_XP_POWER-ISU02_SMD
pins: 1 -VIN (power), 2 ON/~{{OFF}} (in), 6 COM hidden, 7 -VOUT (power), 8 +VOUT (power), 9 COM (power), 14 +VIN (power)

## ISU0205D15
designator *  value ISU0205D15
ki_keywords: DC/DC Converter dual; ki_description: XP Power 2W Isolated DC/DC Dual Supply Converter Module, ±15V Output Voltage, 4.5-12V Input Voltage; ki_fp_filters: *XP?POWER*ISU02*SMD*; Footprint: Converter_DCDC:Converter_DCDC_XP_POWER-ISU02_SMD; Supplier: https://www.xppower.com/Portals/0/pdfs/SF_ISU02.pdf
footprint Converter_DCDC_XP_POWER-ISU02_SMD
pins: 1 -VIN (power), 2 ON/~{{OFF}} (in), 6 COM hidden, 7 -VOUT (power), 8 +VOUT (power), 9 COM (power), 14 +VIN (power)

## ISU0205S05
designator *  value ISU0205S05
ki_keywords: DC/DC Converter; ki_description: XP Power 2W Isolated DC/DC Converter Module, 5V Output Voltage, 4.5-12V Input Voltage; ki_fp_filters: *XP?POWER*ISU02*SMD*; Footprint: Converter_DCDC:Converter_DCDC_XP_POWER-ISU02_SMD; Supplier: https://www.xppower.com/Portals/0/pdfs/SF_ISU02.pdf
footprint Converter_DCDC_XP_POWER-ISU02_SMD
pins: 1 -VIN (power), 2 ON/~{{OFF}} (in), 6 NC (in) hidden, 7 NC (in) hidden, 8 +VOUT (power), 9 -VOUT (power), 14 +VIN (power)

## ISU0205S12
designator *  value ISU0205S12
ki_keywords: DC/DC Converter; ki_description: XP Power 2W Isolated DC/DC Converter Module, 12V Output Voltage, 4.5-12V Input Voltage; ki_fp_filters: *XP?POWER*ISU02*SMD*; Footprint: Converter_DCDC:Converter_DCDC_XP_POWER-ISU02_SMD; Supplier: https://www.xppower.com/Portals/0/pdfs/SF_ISU02.pdf
footprint Converter_DCDC_XP_POWER-ISU02_SMD
pins: 1 -VIN (power), 2 ON/~{{OFF}} (in), 6 NC (in) hidden, 7 NC (in) hidden, 8 +VOUT (power), 9 -VOUT (power), 14 +VIN (power)

## ISU0205S15
designator *  value ISU0205S15
ki_keywords: DC/DC Converter; ki_description: XP Power 2W Isolated DC/DC Converter Module, 15V Output Voltage, 4.5-12V Input Voltage; ki_fp_filters: *XP?POWER*ISU02*SMD*; Footprint: Converter_DCDC:Converter_DCDC_XP_POWER-ISU02_SMD; Supplier: https://www.xppower.com/Portals/0/pdfs/SF_ISU02.pdf
footprint Converter_DCDC_XP_POWER-ISU02_SMD
pins: 1 -VIN (power), 2 ON/~{{OFF}} (in), 6 NC (in) hidden, 7 NC (in) hidden, 8 +VOUT (power), 9 -VOUT (power), 14 +VIN (power)

## ISU0205S24
designator *  value ISU0205S24
ki_keywords: DC/DC Converter; ki_description: XP Power 2W Isolated DC/DC Converter Module, 24V Output Voltage, 4.5-12V Input Voltage; ki_fp_filters: *XP?POWER*ISU02*SMD*; Footprint: Converter_DCDC:Converter_DCDC_XP_POWER-ISU02_SMD; Supplier: https://www.xppower.com/Portals/0/pdfs/SF_ISU02.pdf
footprint Converter_DCDC_XP_POWER-ISU02_SMD
pins: 1 -VIN (power), 2 ON/~{{OFF}} (in), 6 NC (in) hidden, 7 NC (in) hidden, 8 +VOUT (power), 9 -VOUT (power), 14 +VIN (power)

## ISU0224D12
designator *  value ISU0224D12
ki_keywords: DC/DC Converter dual; ki_description: XP Power 2W Isolated DC/DC Dual Supply Converter Module, ±12V Output Voltage, 9-36V Input Voltage; ki_fp_filters: *XP?POWER*ISU02*SMD*; Footprint: Converter_DCDC:Converter_DCDC_XP_POWER-ISU02_SMD; Supplier: https://www.xppower.com/Portals/0/pdfs/SF_ISU02.pdf
footprint Converter_DCDC_XP_POWER-ISU02_SMD
pins: 1 -VIN (power), 2 ON/~{{OFF}} (in), 6 COM hidden, 7 -VOUT (power), 8 +VOUT (power), 9 COM (power), 14 +VIN (power)

## ISU0224D15
designator *  value ISU0224D15
ki_keywords: DC/DC Converter dual; ki_description: XP Power 2W Isolated DC/DC Dual Supply Converter Module, ±15V Output Voltage, 9-36V Input Voltage; ki_fp_filters: *XP?POWER*ISU02*SMD*; Footprint: Converter_DCDC:Converter_DCDC_XP_POWER-ISU02_SMD; Supplier: https://www.xppower.com/Portals/0/pdfs/SF_ISU02.pdf
footprint Converter_DCDC_XP_POWER-ISU02_SMD
pins: 1 -VIN (power), 2 ON/~{{OFF}} (in), 6 COM hidden, 7 -VOUT (power), 8 +VOUT (power), 9 COM (power), 14 +VIN (power)

## ISU0224S05
designator *  value ISU0224S05
ki_keywords: DC/DC Converter; ki_description: XP Power 2W Isolated DC/DC Converter Module, 5V Output Voltage, 9-36V Input Voltage; ki_fp_filters: *XP?POWER*ISU02*SMD*; Footprint: Converter_DCDC:Converter_DCDC_XP_POWER-ISU02_SMD; Supplier: https://www.xppower.com/Portals/0/pdfs/SF_ISU02.pdf
footprint Converter_DCDC_XP_POWER-ISU02_SMD
pins: 1 -VIN (power), 2 ON/~{{OFF}} (in), 6 NC (in) hidden, 7 NC (in) hidden, 8 +VOUT (power), 9 -VOUT (power), 14 +VIN (power)

## ISU0224S12
designator *  value ISU0224S12
ki_keywords: DC/DC Converter; ki_description: XP Power 2W Isolated DC/DC Converter Module, 12V Output Voltage, 9-36V Input Voltage; ki_fp_filters: *XP?POWER*ISU02*SMD*; Footprint: Converter_DCDC:Converter_DCDC_XP_POWER-ISU02_SMD; Supplier: https://www.xppower.com/Portals/0/pdfs/SF_ISU02.pdf
footprint Converter_DCDC_XP_POWER-ISU02_SMD
pins: 1 -VIN (power), 2 ON/~{{OFF}} (in), 6 NC (in) hidden, 7 NC (in) hidden, 8 +VOUT (power), 9 -VOUT (power), 14 +VIN (power)

## ISU0224S15
designator *  value ISU0224S15
ki_keywords: DC/DC Converter; ki_description: XP Power 2W Isolated DC/DC Converter Module, 15V Output Voltage, 9-36V Input Voltage; ki_fp_filters: *XP?POWER*ISU02*SMD*; Footprint: Converter_DCDC:Converter_DCDC_XP_POWER-ISU02_SMD; Supplier: https://www.xppower.com/Portals/0/pdfs/SF_ISU02.pdf
footprint Converter_DCDC_XP_POWER-ISU02_SMD
pins: 1 -VIN (power), 2 ON/~{{OFF}} (in), 6 NC (in) hidden, 7 NC (in) hidden, 8 +VOUT (power), 9 -VOUT (power), 14 +VIN (power)

## ISU0224S24
designator *  value ISU0224S24
ki_keywords: DC/DC Converter; ki_description: XP Power 2W Isolated DC/DC Converter Module, 24V Output Voltage, 9-36V Input Voltage; ki_fp_filters: *XP?POWER*ISU02*SMD*; Footprint: Converter_DCDC:Converter_DCDC_XP_POWER-ISU02_SMD; Supplier: https://www.xppower.com/Portals/0/pdfs/SF_ISU02.pdf
footprint Converter_DCDC_XP_POWER-ISU02_SMD
pins: 1 -VIN (power), 2 ON/~{{OFF}} (in), 6 NC (in) hidden, 7 NC (in) hidden, 8 +VOUT (power), 9 -VOUT (power), 14 +VIN (power)

## ISU0248D12
designator *  value ISU0248D12
ki_keywords: DC/DC Converter dual; ki_description: XP Power 2W Isolated DC/DC Dual Supply Converter Module, ±12V Output Voltage, 18-75V Input Voltage; ki_fp_filters: *XP?POWER*ISU02*SMD*; Footprint: Converter_DCDC:Converter_DCDC_XP_POWER-ISU02_SMD; Supplier: https://www.xppower.com/Portals/0/pdfs/SF_ISU02.pdf
footprint Converter_DCDC_XP_POWER-ISU02_SMD
pins: 1 -VIN (power), 2 ON/~{{OFF}} (in), 6 COM hidden, 7 -VOUT (power), 8 +VOUT (power), 9 COM (power), 14 +VIN (power)

## ISU0248D15
designator *  value ISU0248D15
ki_keywords: DC/DC Converter dual; ki_description: XP Power 2W Isolated DC/DC Dual Supply Converter Module, ±15V Output Voltage, 18-75V Input Voltage; ki_fp_filters: *XP?POWER*ISU02*SMD*; Footprint: Converter_DCDC:Converter_DCDC_XP_POWER-ISU02_SMD; Supplier: https://www.xppower.com/Portals/0/pdfs/SF_ISU02.pdf
footprint Converter_DCDC_XP_POWER-ISU02_SMD
pins: 1 -VIN (power), 2 ON/~{{OFF}} (in), 6 COM hidden, 7 -VOUT (power), 8 +VOUT (power), 9 COM (power), 14 +VIN (power)

## ISU0248S05
designator *  value ISU0248S05
ki_keywords: DC/DC Converter; ki_description: XP Power 2W Isolated DC/DC Converter Module, 5V Output Voltage, 18-75V Input Voltage; ki_fp_filters: *XP?POWER*ISU02*SMD*; Footprint: Converter_DCDC:Converter_DCDC_XP_POWER-ISU02_SMD; Supplier: https://www.xppower.com/Portals/0/pdfs/SF_ISU02.pdf
footprint Converter_DCDC_XP_POWER-ISU02_SMD
pins: 1 -VIN (power), 2 ON/~{{OFF}} (in), 6 NC (in) hidden, 7 NC (in) hidden, 8 +VOUT (power), 9 -VOUT (power), 14 +VIN (power)

## ISU0248S12
designator *  value ISU0248S12
ki_keywords: DC/DC Converter; ki_description: XP Power 2W Isolated DC/DC Converter Module, 12V Output Voltage, 18-75V Input Voltage; ki_fp_filters: *XP?POWER*ISU02*SMD*; Footprint: Converter_DCDC:Converter_DCDC_XP_POWER-ISU02_SMD; Supplier: https://www.xppower.com/Portals/0/pdfs/SF_ISU02.pdf
footprint Converter_DCDC_XP_POWER-ISU02_SMD
pins: 1 -VIN (power), 2 ON/~{{OFF}} (in), 6 NC (in) hidden, 7 NC (in) hidden, 8 +VOUT (power), 9 -VOUT (power), 14 +VIN (power)

## ISU0248S15
designator *  value ISU0248S15
ki_keywords: DC/DC Converter; ki_description: XP Power 2W Isolated DC/DC Converter Module, 15V Output Voltage, 18-75V Input Voltage; ki_fp_filters: *XP?POWER*ISU02*SMD*; Footprint: Converter_DCDC:Converter_DCDC_XP_POWER-ISU02_SMD; Supplier: https://www.xppower.com/Portals/0/pdfs/SF_ISU02.pdf
footprint Converter_DCDC_XP_POWER-ISU02_SMD
pins: 1 -VIN (power), 2 ON/~{{OFF}} (in), 6 NC (in) hidden, 7 NC (in) hidden, 8 +VOUT (power), 9 -VOUT (power), 14 +VIN (power)

## ISU0248S24
designator *  value ISU0248S24
ki_keywords: DC/DC Converter; ki_description: XP Power 2W Isolated DC/DC Converter Module, 24V Output Voltage, 18-75V Input Voltage; ki_fp_filters: *XP?POWER*ISU02*SMD*; Footprint: Converter_DCDC:Converter_DCDC_XP_POWER-ISU02_SMD; Supplier: https://www.xppower.com/Portals/0/pdfs/SF_ISU02.pdf
footprint Converter_DCDC_XP_POWER-ISU02_SMD
pins: 1 -VIN (power), 2 ON/~{{OFF}} (in), 6 NC (in) hidden, 7 NC (in) hidden, 8 +VOUT (power), 9 -VOUT (power), 14 +VIN (power)

## ITQ2403SA
designator *  value ITQ2403SA
ki_keywords: XP_POWER DC/DC isolated Converter module; ki_description: XP Power 6W, 1000 VDC Isolated DC/DC Converter Module, Single Output Voltage 3.3V, ±1500mA, 24V Input Voltage, SIP; ki_fp_filters: *XP?POWER?ITxxxxx*; Footprint: Converter_DCDC:Converter_DCDC_XP_POWER-ITxxxxxS_THT; Supplier: https://www.xppower.com/pdfs/SF_ITQ.pdf
footprint Converter_DCDC_XP_POWER-ITxxxxxS_THT
pins: 1 -Vin (power), 2 +Vin (power), 3 OnOff (in), 5 NC (in) hidden, 6 +Vout (power), 7 -Vout (power), 8 NC (in) hidden

## ITQ2403SA-H
designator *  value ITQ2403SA-H
ki_keywords: XP_POWER DC/DC isolated Converter module; ki_description: XP Power 6W, 3000 VDC Isolated DC/DC Converter Module, Single Output Voltage 3.3V, ±1500mA, 24V Input Voltage, SIP; ki_fp_filters: *XP?POWER?ITQxxxxS?H*; Footprint: Converter_DCDC:Converter_DCDC_XP_POWER-ITQxxxxS-H_THT; Supplier: https://www.xppower.com/pdfs/SF_ITQ.pdf
footprint Converter_DCDC_XP_POWER-ITQxxxxS-H_THT
pins: 1 -Vin (power), 2 +Vin (power), 3 OnOff (in), 6 +Vout (power), 7 -Vout (power), 8 NC (in) hidden

## ITQ2405S
designator *  value ITQ2405S
ki_keywords: XP_POWER DC/DC isolated Converter module; ki_description: XP Power 6W, 1000 VDC Isolated DC/DC Converter Module, Dual Output Voltage ±5V, ±600mA, 24V Input Voltage, SIP; ki_fp_filters: *XP?POWER?ITxxxxx*; Footprint: Converter_DCDC:Converter_DCDC_XP_POWER-ITxxxxxS_THT; Supplier: https://www.xppower.com/pdfs/SF_ITQ.pdf
footprint Converter_DCDC_XP_POWER-ITxxxxxS_THT
pins: 1 -Vin (power), 2 +Vin (power), 3 OnOff (in), 5 NC (in) hidden, 6 +Vout (power), 7 Common (power), 8 -Vout (power)

## ITQ2405S-H
designator *  value ITQ2405S-H
ki_keywords: XP_POWER DC/DC isolated Converter module; ki_description: XP Power 6W, 3000 VDC Isolated DC/DC Converter Module, Dual Output Voltage ±5V, ±600mA, 24V Input Voltage, SIP; ki_fp_filters: *XP?POWER?ITQxxxxS?H*; Footprint: Converter_DCDC:Converter_DCDC_XP_POWER-ITQxxxxS-H_THT; Supplier: https://www.xppower.com/pdfs/SF_ITQ.pdf
footprint Converter_DCDC_XP_POWER-ITQxxxxS-H_THT
pins: 1 -Vin (power), 2 +Vin (power), 3 OnOff (in), 6 +Vout (power), 7 Common (power), 8 -Vout (power)

## ITQ2405SA
designator *  value ITQ2405SA
ki_keywords: XP_POWER DC/DC isolated Converter module; ki_description: XP Power 6W, 1000 VDC Isolated DC/DC Converter Module, Single Output Voltage 5V, ±1200mA, 24V Input Voltage, SIP; ki_fp_filters: *XP?POWER?ITxxxxx*; Footprint: Converter_DCDC:Converter_DCDC_XP_POWER-ITxxxxxS_THT; Supplier: https://www.xppower.com/pdfs/SF_ITQ.pdf
footprint Converter_DCDC_XP_POWER-ITxxxxxS_THT
pins: 1 -Vin (power), 2 +Vin (power), 3 OnOff (in), 5 NC (in) hidden, 6 +Vout (power), 7 -Vout (power), 8 NC (in) hidden

## ITQ2405SA-H
designator *  value ITQ2405SA-H
ki_keywords: XP_POWER DC/DC isolated Converter module; ki_description: XP Power 6W, 3000 VDC Isolated DC/DC Converter Module, Single Output Voltage 5V, ±1200mA, 24V Input Voltage, SIP; ki_fp_filters: *XP?POWER?ITQxxxxS?H*; Footprint: Converter_DCDC:Converter_DCDC_XP_POWER-ITQxxxxS-H_THT; Supplier: https://www.xppower.com/pdfs/SF_ITQ.pdf
footprint Converter_DCDC_XP_POWER-ITQxxxxS-H_THT
pins: 1 -Vin (power), 2 +Vin (power), 3 OnOff (in), 6 +Vout (power), 7 -Vout (power), 8 NC (in) hidden

## ITQ2409SA
designator *  value ITQ2409SA
ki_keywords: XP_POWER DC/DC isolated Converter module; ki_description: XP Power 6W, 1000 VDC Isolated DC/DC Converter Module, Single Output Voltage 9V, ±666mA, 24V Input Voltage, SIP; ki_fp_filters: *XP?POWER?ITxxxxx*; Footprint: Converter_DCDC:Converter_DCDC_XP_POWER-ITxxxxxS_THT; Supplier: https://www.xppower.com/pdfs/SF_ITQ.pdf
footprint Converter_DCDC_XP_POWER-ITxxxxxS_THT
pins: 1 -Vin (power), 2 +Vin (power), 3 OnOff (in), 5 NC (in) hidden, 6 +Vout (power), 7 -Vout (power), 8 NC (in) hidden

## ITQ2409SA-H
designator *  value ITQ2409SA-H
ki_keywords: XP_POWER DC/DC isolated Converter module; ki_description: XP Power 6W, 3000 VDC Isolated DC/DC Converter Module, Single Output Voltage 9V, ±666mA, 24V Input Voltage, SIP; ki_fp_filters: *XP?POWER?ITQxxxxS?H*; Footprint: Converter_DCDC:Converter_DCDC_XP_POWER-ITQxxxxS-H_THT; Supplier: https://www.xppower.com/pdfs/SF_ITQ.pdf
footprint Converter_DCDC_XP_POWER-ITQxxxxS-H_THT
pins: 1 -Vin (power), 2 +Vin (power), 3 OnOff (in), 6 +Vout (power), 7 -Vout (power), 8 NC (in) hidden

## ITQ2412S
designator *  value ITQ2412S
ki_keywords: XP_POWER DC/DC isolated Converter module; ki_description: XP Power 6W, 1000 VDC Isolated DC/DC Converter Module, Dual Output Voltage ±12V, ±250mA, 24V Input Voltage, SIP; ki_fp_filters: *XP?POWER?ITxxxxx*; Footprint: Converter_DCDC:Converter_DCDC_XP_POWER-ITxxxxxS_THT; Supplier: https://www.xppower.com/pdfs/SF_ITQ.pdf
footprint Converter_DCDC_XP_POWER-ITxxxxxS_THT
pins: 1 -Vin (power), 2 +Vin (power), 3 OnOff (in), 5 NC (in) hidden, 6 +Vout (power), 7 Common (power), 8 -Vout (power)

## ITQ2412S-H
designator *  value ITQ2412S-H
ki_keywords: XP_POWER DC/DC isolated Converter module; ki_description: XP Power 6W, 3000 VDC Isolated DC/DC Converter Module, Dual Output Voltage ±12V, ±250mA, 24V Input Voltage, SIP; ki_fp_filters: *XP?POWER?ITQxxxxS?H*; Footprint: Converter_DCDC:Converter_DCDC_XP_POWER-ITQxxxxS-H_THT; Supplier: https://www.xppower.com/pdfs/SF_ITQ.pdf
footprint Converter_DCDC_XP_POWER-ITQxxxxS-H_THT
pins: 1 -Vin (power), 2 +Vin (power), 3 OnOff (in), 6 +Vout (power), 7 Common (power), 8 -Vout (power)

## ITQ2412SA
designator *  value ITQ2412SA
ki_keywords: XP_POWER DC/DC isolated Converter module; ki_description: XP Power 6W, 1000 VDC Isolated DC/DC Converter Module, Single Output Voltage 12V, ±500mA, 24V Input Voltage, SIP; ki_fp_filters: *XP?POWER?ITxxxxx*; Footprint: Converter_DCDC:Converter_DCDC_XP_POWER-ITxxxxxS_THT; Supplier: https://www.xppower.com/pdfs/SF_ITQ.pdf
footprint Converter_DCDC_XP_POWER-ITxxxxxS_THT
pins: 1 -Vin (power), 2 +Vin (power), 3 OnOff (in), 5 NC (in) hidden, 6 +Vout (power), 7 -Vout (power), 8 NC (in) hidden